# Altium footprint library 三电平变换器.PCBLIB: 98 footprints (part 7 of 7)
Each footprint in its own frame and in the unit in brackets; x right, y up, seen from the top. Pads: shape width x height; smd on the part's side, far side on the other; paste and mask are expansions set on the pad; w line width, h text height; cw(c..) or ccw(c..) is an arc to the next point about the centre after c.
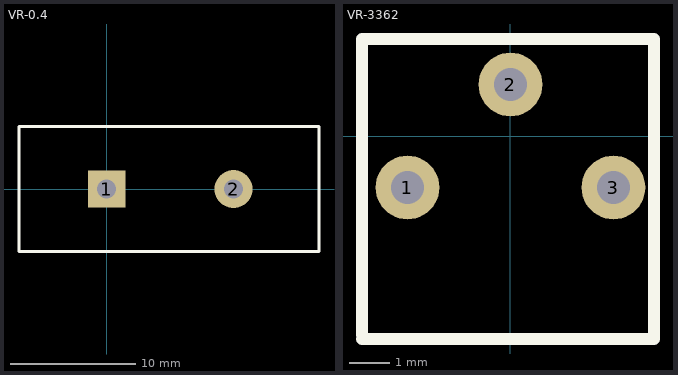
[diagram p6: the footprints below, top view; thin cyan lines are the x and y axes]

## VR-0.4 [mm]
pads (2):
  rect 3x3 hole 1.5: 1(0,0.008)
  round 3.048 hole 1.524: 2(10.16,0)
TopOverlay:
  lines w0.254: -7,-4.992 -7,5.008 -3.491,5.008 11.509,5.008 17,5.008 17,-4.992 11.509,-4.992 -3.491,-4.992 -7,-4.992

## VR-3362 [mil]
pads (3):
  round 62 hole 32: 1(-100,-49.67) 2(0,50.33) 3(100,-49.67)
TopOverlay:
  lines w11.81: 139.37,-195.97 139.37,94.58
  lines w12: -144.09,-196.76 139.37,-196.76 ; -144.09,-192.82 -144.09,94.58 139.37,94.58